# Altium footprint library INA138_Components - 05.03.22 - 11.52.PcbLib: 4 footprints
Each footprint in its own frame and in the unit in brackets; x right, y up, seen from the top. Pads: shape width x height; smd on the part's side, far side on the other; paste and mask are expansions set on the pad; w line width, h text height; cw(c..) or ccw(c..) is an arc to the next point about the centre after c.
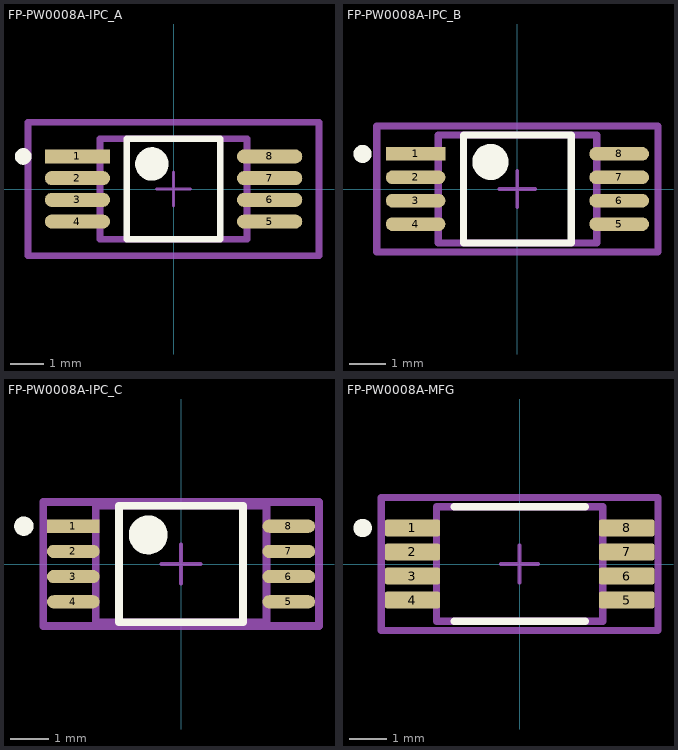
[diagram p0: the footprints below, top view; thin cyan lines are the x and y axes]

## FP-PW0008A-IPC_A [mm]
pads (8):
  rect 1.955x0.421 smd paste+0 mask+0: 1(-2.875,0.975)
  rrect100% 1.955x0.421 smd paste+0 mask+0: 2(-2.875,0.325) 3(-2.875,-0.325) 4(-2.875,-0.975) 5(2.875,-0.975) 6(2.875,-0.325) 7(2.875,0.325) 8(2.875,0.975)
Top Overlay:
  circle w0.5: c-0.648,0.75 r0.25
  circle w0.25: c-4.5,0.975 r0.125
  lines w0.2: -1.398,-1.5 1.398,-1.5 1.398,1.5 -1.398,1.5 -1.398,-1.5
Top Assembly:
  lines w0.2: -4.353,-2 4.353,-2 4.353,2 -4.353,2 -4.353,-2
  text ".Designator" at 0,0.188 h1
Top 3D Body:
  lines w0.2: -2.2,-1.5 2.2,-1.5 2.2,1.5 -2.2,1.5 -2.2,-1.5
Top Courtyard:
  lines w0.2: -4.353,-2 4.353,-2 4.353,2 -4.353,2 -4.353,-2
Top Component Center:
  lines w0.1: -0.5,0 0.5,0 ; 0,-0.5 0,0.5
3D body "IC_Texas_Instruments_LM2903BIPWR_eec.STEP": height 0.25, standoff 0, extent -4.353,-2 4.353,2

## FP-PW0008A-IPC_B [mm]
pads (8):
  rect 1.655x0.381 smd paste+0 mask+0: 1(-2.825,0.975)
  rrect100% 1.655x0.381 smd paste+0 mask+0: 2(-2.825,0.325) 3(-2.825,-0.325) 4(-2.825,-0.975) 5(2.825,-0.975) 6(2.825,-0.325) 7(2.825,0.325) 8(2.825,0.975)
Top Overlay:
  circle w0.5: c-0.748,0.75 r0.25
  circle w0.25: c-4.3,0.975 r0.125
  lines w0.2: -1.498,-1.5 1.498,-1.5 1.498,1.5 -1.498,1.5 -1.498,-1.5
Top Assembly:
  lines w0.2: -3.903,-1.75 3.903,-1.75 3.903,1.75 -3.903,1.75 -3.903,-1.75
  text ".Designator" at 0,0.188 h1
Top 3D Body:
  lines w0.2: -2.2,-1.5 2.2,-1.5 2.2,1.5 -2.2,1.5 -2.2,-1.5
Top Courtyard:
  lines w0.2: -3.903,-1.75 3.903,-1.75 3.903,1.75 -3.903,1.75 -3.903,-1.75
Top Component Center:
  lines w0.1: -0.5,0 0.5,0 ; 0,-0.5 0,0.5
3D body "IC_Texas_Instruments_LM2903BIPWR_eec.STEP": height 0.25, standoff 0, extent -3.903,-1.75 3.903,1.75

## FP-PW0008A-IPC_C [mm]
pads (8):
  rect 1.355x0.341 smd paste+0 mask+0: 1(-2.775,0.975)
  rrect100% 1.355x0.341 smd paste+0 mask+0: 2(-2.775,0.325) 3(-2.775,-0.325) 4(-2.775,-0.975) 5(2.775,-0.975) 6(2.775,-0.325) 7(2.775,0.325) 8(2.775,0.975)
Top Overlay:
  circle w0.5: c-0.848,0.75 r0.25
  circle w0.25: c-4.05,0.975 r0.125
  lines w0.2: -1.598,-1.5 1.598,-1.5 1.598,1.5 -1.598,1.5 -1.598,-1.5
Top Assembly:
  lines w0.2: -3.553,-1.6 3.553,-1.6 3.553,1.6 -3.553,1.6 -3.553,-1.6
  text ".Designator" at 0,0.188 h1
Top 3D Body:
  lines w0.2: -2.2,-1.5 2.2,-1.5 2.2,1.5 -2.2,1.5 -2.2,-1.5
Top Courtyard:
  lines w0.2: -3.553,-1.6 3.553,-1.6 3.553,1.6 -3.553,1.6 -3.553,-1.6
Top Component Center:
  lines w0.1: -0.5,0 0.5,0 ; 0,-0.5 0,0.5
3D body "IC_Texas_Instruments_LM2903BIPWR_eec.STEP": height 0.25, standoff 0, extent -3.553,-1.6 3.553,1.6

## FP-PW0008A-MFG [mm]
pads (8):
  rrect22% 1.5x0.45 smd paste+0 mask+0: 1(-2.9,0.975) 2(-2.9,0.325) 3(-2.9,-0.325) 4(-2.9,-0.975) 5(2.9,-0.975) 6(2.9,-0.325) 7(2.9,0.325) 8(2.9,0.975)
Top Overlay:
  circle w0.25: c-4.25,0.975 r0.125
  lines w0.2: -1.775,-1.55 1.775,-1.55 ; -1.775,1.55 1.775,1.55
Top Assembly:
  lines w0.2: -3.75,-1.8 3.75,-1.8 3.75,1.8 -3.75,1.8 -3.75,-1.8
  text ".Designator" at 0,0.188 h1
Top 3D Body:
  lines w0.2: -2.25,-1.55 2.25,-1.55 2.25,1.55 -2.25,1.55 -2.25,-1.55
Top Courtyard:
  lines w0.2: -3.75,-1.8 3.75,-1.8 3.75,1.8 -3.75,1.8 -3.75,-1.8
Top Component Center:
  lines w0.1: -0.5,0 0.5,0 ; 0,-0.5 0,0.5
3D body "IC_Texas_Instruments_LM2903BIPWR_eec.STEP": height 0.25, standoff 0, extent -3.75,-1.8 3.75,1.8